# EAGLE library part LM66200DRLR (library LM66200DRLR)
1.6-V to 5.5-V, 40-m, 2.5-A, low-IQ, dual ideal diode Source: Datasheet <https://www.ti.com/lit/gpn/lm66200>
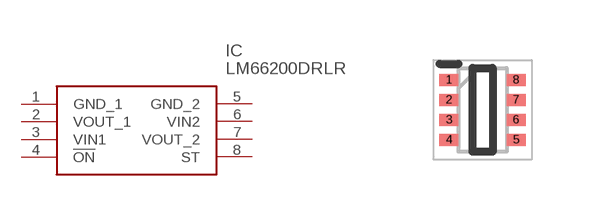
[diagram p0: symbol with the pads of SOTFL50P160X60-8N; footprint SOTFL50P160X60-8N]

Designator prefix IC

## LM66200DRLR (Description: 1.6-V to 5.5-V, 40-m, 2.5-A, low-IQ, dual ideal diode; Height: 0.6mm; Manufacturer_Name: Texas Instruments; Manufacturer_Part_Number: LM66200DRLR; Mouser_Part_Number: 595-LM66200DRLR; Mouser_Price-Stock: https://www.mouser.co.uk/ProductDetail/Texas-Instruments/LM66200DRLR?qs=Rp5uXu7WBW90hnpZAkIOdQ%3D%3D)  [SOTFL50P160X60-8N]
1  GND_1
2  VOUT_1
3  VIN1
4  !ON
5  GND_2
6  VIN2
7  VOUT_2
8  ST

## Footprint SOTFL50P160X60-8N (pad centres in mm)
DRL0008A
smd 0.475 x 0.3: 1 -0.838,0.75; 2 -0.838,0.25; 3 -0.838,-0.25; 4 -0.838,-0.75; 5 0.838,-0.75; 6 0.838,-0.25; 7 0.838,0.25; 8 0.838,0.75